# Altium footprint library ButtonSwitch.PcbLib: 1 footprints
Each footprint in its own frame and in the unit in brackets; x right, y up, seen from the top. Pads: shape width x height; smd on the part's side, far side on the other; paste and mask are expansions set on the pad; w line width, h text height; cw(c..) or ccw(c..) is an arc to the next point about the centre after c.
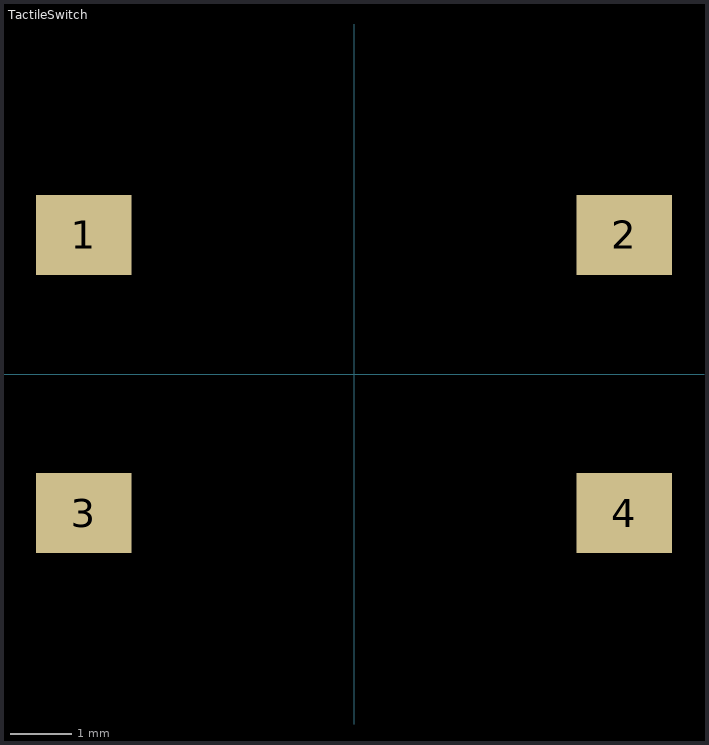
[diagram p0: the footprint, top view; thin cyan lines are the x and y axes]

## TactileSwitch [mm]
pads (4):
  rect 1.55x1.3 smd: 1(-4.375,2.25) 2(4.375,2.25) 3(-4.375,-2.25) 4(4.375,-2.25)
3D body: height 4.3, standoff 0, extent -4.5,-3 4.5,3